# Altium footprint library PCB - DIODES - LED PLCC-2.PCBLIB: 1 footprints
Each footprint in its own frame and in the unit in brackets; x right, y up, seen from the top. Pads: shape width x height; smd on the part's side, far side on the other; paste and mask are expansions set on the pad; w line width, h text height; cw(c..) or ccw(c..) is an arc to the next point about the centre after c.
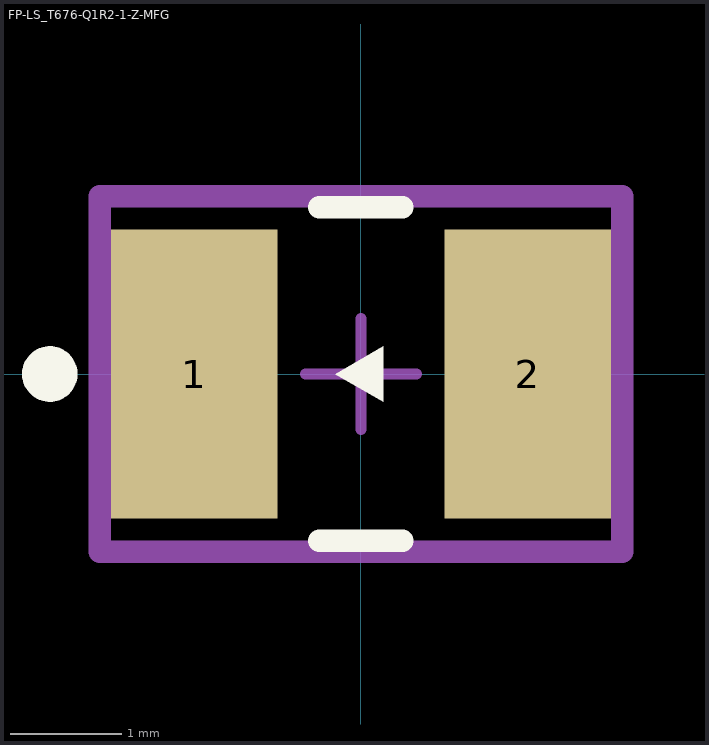
[diagram p0: the footprint, top view; thin cyan lines are the x and y axes]

## FP-LS_T676-Q1R2-1-Z-MFG [mm]
pads (2):
  rect 1.5x2.6 smd paste+0 mask+0: 1(-1.5,0) 2(1.5,0)
Top Overlay:
  circle w0.25: c-2.8,0 r0.125
  region: -0.233,0 0.2,-0.25 0.2,0.25
  lines w0.2: -0.375,-1.5 0.375,-1.5 ; -0.375,1.5 0.375,1.5
Top Assembly:
  lines w0.127: -2.737,0.028 ccw(c-2.794,0) -2.73,0
  lines w0.2: -2.35,-1.6 2.35,-1.6 2.35,1.6 -2.35,1.6 -2.35,-1.6
Top Courtyard:
  lines w0.2: -2.35,-1.6 2.35,-1.6 2.35,1.6 -2.35,1.6 -2.35,-1.6
Top Designator:
  text ".Designator" at -2.159,1.966 h1
Top Component Center (Mech11):
  lines w0.1: -0.5,0 0.5,0 ; 0,-0.5 0,0.5
3D body "Diode_Osram_Opto_LS_T676-Q1R2-1-Z_eec.STEP": height 0.25, standoff 0, extent -2.35,-1.6 2.35,1.6